# Altium schematic symbol library WCAP-ATG8.SchLib: 195 symbols (part 1 of 3)
Pins are listed as number, name and electrical type; pins without a type are passive.

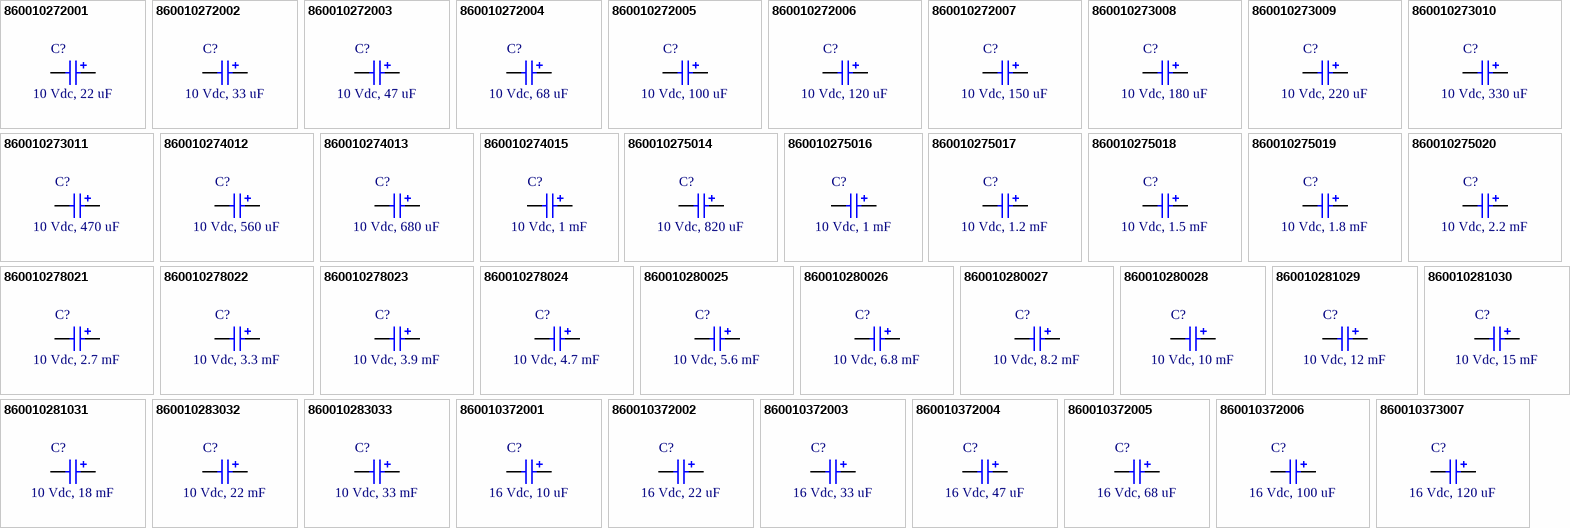
[diagram p0: symbols 860010272001 to 860010373007]

## 860010272001
designator C?, comment 10 Vdc, 22 uF
WCAP-ATG8 Aluminum Electrolytic Capacitors, 5x11mm, 10 Vdc, 22 uF; Part Number: 860010272001; Rated Voltage: 10 Vdc; Value: 22 uF; ComponentLink1Description: Manufacturer; ComponentLink1URL: http://www.we-online.de; ComponentLink2Description: Datasheet; ComponentLink2URL: http://katalog.we-online.de/pbs/datasheet/860010272001.pdf; Published Date: Sep. 2017; Publisher: Wurth Elektronik; Size: 5x11mm; Life Cycle: 2000h; Operating Temperature: -40 °C up to +85 °C
footprint WCAP-ATG8_5x11x2
pins: 1 P, 2 N

## 860010272002
designator C?, comment 10 Vdc, 33 uF
WCAP-ATG8 Aluminum Electrolytic Capacitors, 5x11mm, 10 Vdc, 33 uF; Part Number: 860010272002; Rated Voltage: 10 Vdc; Value: 33 uF; ComponentLink1Description: Manufacturer; ComponentLink1URL: http://www.we-online.de; ComponentLink2Description: Datasheet; ComponentLink2URL: http://katalog.we-online.de/pbs/datasheet/860010272002.pdf; Published Date: Sep. 2017; Publisher: Wurth Elektronik; Size: 5x11mm; Life Cycle: 2000h; Operating Temperature: -40 °C up to +85 °C
footprint WCAP-ATG8_5x11x2
pins: 1 P, 2 N

## 860010272003
designator C?, comment 10 Vdc, 47 uF
WCAP-ATG8 Aluminum Electrolytic Capacitors, 5x11mm, 10 Vdc, 47 uF; Part Number: 860010272003; Rated Voltage: 10 Vdc; Value: 47 uF; ComponentLink1Description: Manufacturer; ComponentLink1URL: http://www.we-online.de; ComponentLink2Description: Datasheet; ComponentLink2URL: http://katalog.we-online.de/pbs/datasheet/860010272003.pdf; Published Date: Sep. 2017; Publisher: Wurth Elektronik; Size: 5x11mm; Life Cycle: 2000h; Operating Temperature: -40 °C up to +85 °C
footprint WCAP-ATG8_5x11x2
pins: 1 P, 2 N

## 860010272004
designator C?, comment 10 Vdc, 68 uF
WCAP-ATG8 Aluminum Electrolytic Capacitors, 5x11mm, 10 Vdc, 68 uF; Part Number: 860010272004; Rated Voltage: 10 Vdc; Value: 68 uF; ComponentLink1Description: Manufacturer; ComponentLink1URL: http://www.we-online.de; ComponentLink2Description: Datasheet; ComponentLink2URL: http://katalog.we-online.de/pbs/datasheet/860010272004.pdf; Published Date: Sep. 2017; Publisher: Wurth Elektronik; Size: 5x11mm; Life Cycle: 2000h; Operating Temperature: -40 °C up to +85 °C
footprint WCAP-ATG8_5x11x2
pins: 1 P, 2 N

## 860010272005
designator C?, comment 10 Vdc, 100 uF
WCAP-ATG8 Aluminum Electrolytic Capacitors, 5x11mm, 10 Vdc, 100 uF; Part Number: 860010272005; Rated Voltage: 10 Vdc; Value: 100 uF; ComponentLink1Description: Manufacturer; ComponentLink1URL: http://www.we-online.de; ComponentLink2Description: Datasheet; ComponentLink2URL: http://katalog.we-online.de/pbs/datasheet/860010272005.pdf; Published Date: Sep. 2017; Publisher: Wurth Elektronik; Size: 5x11mm; Life Cycle: 2000h; Operating Temperature: -40 °C up to +85 °C
footprint WCAP-ATG8_5x11x2
pins: 1 P, 2 N

## 860010272006
designator C?, comment 10 Vdc, 120 uF
WCAP-ATG8 Aluminum Electrolytic Capacitors, 5x11mm, 10 Vdc, 120 uF; Part Number: 860010272006; Rated Voltage: 10 Vdc; Value: 120 uF; ComponentLink1Description: Manufacturer; ComponentLink1URL: http://www.we-online.de; ComponentLink2Description: Datasheet; ComponentLink2URL: http://katalog.we-online.de/pbs/datasheet/860010272006.pdf; Published Date: Sep. 2017; Publisher: Wurth Elektronik; Size: 5x11mm; Life Cycle: 2000h; Operating Temperature: -40 °C up to +85 °C
footprint WCAP-ATG8_5x11x2
pins: 1 P, 2 N

## 860010272007
designator C?, comment 10 Vdc, 150 uF
WCAP-ATG8 Aluminum Electrolytic Capacitors, 5x11mm, 10 Vdc, 150 uF; Part Number: 860010272007; Rated Voltage: 10 Vdc; Value: 150 uF; ComponentLink1Description: Manufacturer; ComponentLink1URL: http://www.we-online.de; ComponentLink2Description: Datasheet; ComponentLink2URL: http://katalog.we-online.de/pbs/datasheet/860010272007.pdf; Published Date: Sep. 2017; Publisher: Wurth Elektronik; Size: 5x11mm; Life Cycle: 2000h; Operating Temperature: -40 °C up to +85 °C
footprint WCAP-ATG8_5x11x2
pins: 1 P, 2 N

## 860010273008
designator C?, comment 10 Vdc, 180 uF
WCAP-ATG8 Aluminum Electrolytic Capacitors, 6.3x11mm, 10 Vdc, 180 uF; Part Number: 860010273008; Rated Voltage: 10 Vdc; Value: 180 uF; ComponentLink1Description: Manufacturer; ComponentLink1URL: http://www.we-online.de; ComponentLink2Description: Datasheet; ComponentLink2URL: http://katalog.we-online.de/pbs/datasheet/860010273008.pdf; Published Date: Sep. 2017; Publisher: Wurth Elektronik; Size: 6.3x11mm; Life Cycle: 2000h; Operating Temperature: -40 °C up to +85 °C
footprint WCAP-ATG8_6.3x11x2.5
pins: 1 P, 2 N

## 860010273009
designator C?, comment 10 Vdc, 220 uF
WCAP-ATG8 Aluminum Electrolytic Capacitors, 6.3x11mm, 10 Vdc, 220 uF; Part Number: 860010273009; Rated Voltage: 10 Vdc; Value: 220 uF; ComponentLink1Description: Manufacturer; ComponentLink1URL: http://www.we-online.de; ComponentLink2Description: Datasheet; ComponentLink2URL: http://katalog.we-online.de/pbs/datasheet/860010273009.pdf; Published Date: Sep. 2017; Publisher: Wurth Elektronik; Size: 6.3x11mm; Life Cycle: 2000h; Operating Temperature: -40 °C up to +85 °C
footprint WCAP-ATG8_6.3x11x2.5
pins: 1 P, 2 N

## 860010273010
designator C?, comment 10 Vdc, 330 uF
WCAP-ATG8 Aluminum Electrolytic Capacitors, 6.3x11mm, 10 Vdc, 330 uF; Part Number: 860010273010; Rated Voltage: 10 Vdc; Value: 330 uF; ComponentLink1Description: Manufacturer; ComponentLink1URL: http://www.we-online.de; ComponentLink2Description: Datasheet; ComponentLink2URL: http://katalog.we-online.de/pbs/datasheet/860010273010.pdf; Published Date: Sep. 2017; Publisher: Wurth Elektronik; Size: 6.3x11mm; Life Cycle: 2000h; Operating Temperature: -40 °C up to +85 °C
footprint WCAP-ATG8_6.3x11x2.5
pins: 1 P, 2 N

## 860010273011
designator C?, comment 10 Vdc, 470 uF
WCAP-ATG8 Aluminum Electrolytic Capacitors, 6.3x11mm, 10 Vdc, 470 uF; Part Number: 860010273011; Rated Voltage: 10 Vdc; Value: 470 uF; ComponentLink1Description: Manufacturer; ComponentLink1URL: http://www.we-online.de; ComponentLink2Description: Datasheet; ComponentLink2URL: http://katalog.we-online.de/pbs/datasheet/860010273011.pdf; Published Date: Sep. 2017; Publisher: Wurth Elektronik; Size: 6.3x11mm; Life Cycle: 2000h; Operating Temperature: -40 °C up to +85 °C
footprint WCAP-ATG8_6.3x11x2.5
pins: 1 P, 2 N

## 860010274012
designator C?, comment 10 Vdc, 560 uF
WCAP-ATG8 Aluminum Electrolytic Capacitors, 8x11.5mm, 10 Vdc, 560 uF; Part Number: 860010274012; Rated Voltage: 10 Vdc; Value: 560 uF; ComponentLink1Description: Manufacturer; ComponentLink1URL: http://www.we-online.de; ComponentLink2Description: Datasheet; ComponentLink2URL: http://katalog.we-online.de/pbs/datasheet/860010274012.pdf; Published Date: Sep. 2017; Publisher: Wurth Elektronik; Size: 8x11.5mm; Life Cycle: 2000h; Operating Temperature: -40 °C up to +85 °C
footprint WCAP-ATG8_8x11.5x3.5
pins: 1 P, 2 N

## 860010274013
designator C?, comment 10 Vdc, 680 uF
WCAP-ATG8 Aluminum Electrolytic Capacitors, 8x11.5mm, 10 Vdc, 680 uF; Part Number: 860010274013; Rated Voltage: 10 Vdc; Value: 680 uF; ComponentLink1Description: Manufacturer; ComponentLink1URL: http://www.we-online.de; ComponentLink2Description: Datasheet; ComponentLink2URL: http://katalog.we-online.de/pbs/datasheet/860010274013.pdf; Published Date: Sep. 2017; Publisher: Wurth Elektronik; Size: 8x11.5mm; Life Cycle: 2000h; Operating Temperature: -40 °C up to +85 °C
footprint WCAP-ATG8_8x11.5x3.5
pins: 1 P, 2 N

## 860010274015
designator C?, comment 10 Vdc, 1 mF
WCAP-ATG8 Aluminum Electrolytic Capacitors, 8x16mm, 10 Vdc, 1 mF; Part Number: 860010274015; Rated Voltage: 10 Vdc; Value: 1 mF; ComponentLink1Description: Manufacturer; ComponentLink1URL: http://www.we-online.de; ComponentLink2Description: Datasheet; ComponentLink2URL: http://katalog.we-online.de/pbs/datasheet/860010274015.pdf; Published Date: Sep. 2017; Publisher: Wurth Elektronik; Size: 8x16mm; Life Cycle: 2000h; Operating Temperature: -40 °C up to +85 °C
footprint WCAP-ATG8_8x16x3.5
pins: 1 P, 2 N

## 860010275014
designator C?, comment 10 Vdc, 820 uF
WCAP-ATG8 Aluminum Electrolytic Capacitors, 10x12.5mm, 10 Vdc, 820 uF; Part Number: 860010275014; Rated Voltage: 10 Vdc; Value: 820 uF; ComponentLink1Description: Manufacturer; ComponentLink1URL: http://www.we-online.de; ComponentLink2Description: Datasheet; ComponentLink2URL: http://katalog.we-online.de/pbs/datasheet/860010275014.pdf; Published Date: Sep. 2017; Publisher: Wurth Elektronik; Size: 10x12.5mm; Life Cycle: 2000h; Operating Temperature: -40 °C up to +85 °C
footprint WCAP-ATG8_10x12.5x5
pins: 1 P, 2 N

## 860010275016
designator C?, comment 10 Vdc, 1 mF
WCAP-ATG8 Aluminum Electrolytic Capacitors, 10x12.5mm, 10 Vdc, 1 mF; Part Number: 860010275016; Rated Voltage: 10 Vdc; Value: 1 mF; ComponentLink1Description: Manufacturer; ComponentLink1URL: http://www.we-online.de; ComponentLink2Description: Datasheet; ComponentLink2URL: http://katalog.we-online.de/pbs/datasheet/860010275016.pdf; Published Date: Sep. 2017; Publisher: Wurth Elektronik; Size: 10x12.5mm; Life Cycle: 2000h; Operating Temperature: -40 °C up to +85 °C
footprint WCAP-ATG8_10x12.5x5
pins: 1 P, 2 N

## 860010275017
designator C?, comment 10 Vdc, 1.2 mF
WCAP-ATG8 Aluminum Electrolytic Capacitors, 10x16mm, 10 Vdc, 1.2 mF; Part Number: 860010275017; Rated Voltage: 10 Vdc; Value: 1.2 mF; ComponentLink1Description: Manufacturer; ComponentLink1URL: http://www.we-online.de; ComponentLink2Description: Datasheet; ComponentLink2URL: http://katalog.we-online.de/pbs/datasheet/860010275017.pdf; Published Date: Sep. 2017; Publisher: Wurth Elektronik; Size: 10x16mm; Life Cycle: 2000h; Operating Temperature: -40 °C up to +85 °C
footprint WCAP-ATG8_10x16x5
pins: 1 P, 2 N

## 860010275018
designator C?, comment 10 Vdc, 1.5 mF
WCAP-ATG8 Aluminum Electrolytic Capacitors, 10x16mm, 10 Vdc, 1.5 mF; Part Number: 860010275018; Rated Voltage: 10 Vdc; Value: 1.5 mF; ComponentLink1Description: Manufacturer; ComponentLink1URL: http://www.we-online.de; ComponentLink2Description: Datasheet; ComponentLink2URL: http://katalog.we-online.de/pbs/datasheet/860010275018.pdf; Published Date: Sep. 2017; Publisher: Wurth Elektronik; Size: 10x16mm; Life Cycle: 2000h; Operating Temperature: -40 °C up to +85 °C
footprint WCAP-ATG8_10x16x5
pins: 1 P, 2 N

## 860010275019
designator C?, comment 10 Vdc, 1.8 mF
WCAP-ATG8 Aluminum Electrolytic Capacitors, 10x20mm, 10 Vdc, 1.8 mF; Part Number: 860010275019; Rated Voltage: 10 Vdc; Value: 1.8 mF; ComponentLink1Description: Manufacturer; ComponentLink1URL: http://www.we-online.de; ComponentLink2Description: Datasheet; ComponentLink2URL: http://katalog.we-online.de/pbs/datasheet/860010275019.pdf; Published Date: Sep. 2017; Publisher: Wurth Elektronik; Size: 10x20mm; Life Cycle: 2000h; Operating Temperature: -40 °C up to +85 °C
footprint WCAP-ATG8_10x20x5
pins: 1 P, 2 N

## 860010275020
designator C?, comment 10 Vdc, 2.2 mF
WCAP-ATG8 Aluminum Electrolytic Capacitors, 10x20mm, 10 Vdc, 2.2 mF; Part Number: 860010275020; Rated Voltage: 10 Vdc; Value: 2.2 mF; ComponentLink1Description: Manufacturer; ComponentLink1URL: http://www.we-online.de; ComponentLink2Description: Datasheet; ComponentLink2URL: http://katalog.we-online.de/pbs/datasheet/860010275020.pdf; Published Date: Sep. 2017; Publisher: Wurth Elektronik; Size: 10x20mm; Life Cycle: 2000h; Operating Temperature: -40 °C up to +85 °C
footprint WCAP-ATG8_10x20x5
pins: 1 P, 2 N

## 860010278021
designator C?, comment 10 Vdc, 2.7 mF
WCAP-ATG8 Aluminum Electrolytic Capacitors, 13x20mm, 10 Vdc, 2.7 mF; Part Number: 860010278021; Rated Voltage: 10 Vdc; Value: 2.7 mF; ComponentLink1Description: Manufacturer; ComponentLink1URL: http://www.we-online.de; ComponentLink2Description: Datasheet; ComponentLink2URL: http://katalog.we-online.de/pbs/datasheet/860010278021.pdf; Published Date: Sep. 2017; Publisher: Wurth Elektronik; Size: 13x20mm; Life Cycle: 2000h; Operating Temperature: -40 °C up to +85 °C
footprint WCAP-ATG8_13x20x5
pins: 1 P, 2 N

## 860010278022
designator C?, comment 10 Vdc, 3.3 mF
WCAP-ATG8 Aluminum Electrolytic Capacitors, 13x20mm, 10 Vdc, 3.3 mF; Part Number: 860010278022; Rated Voltage: 10 Vdc; Value: 3.3 mF; ComponentLink1Description: Manufacturer; ComponentLink1URL: http://www.we-online.de; ComponentLink2Description: Datasheet; ComponentLink2URL: http://katalog.we-online.de/pbs/datasheet/860010278022.pdf; Published Date: Sep. 2017; Publisher: Wurth Elektronik; Size: 13x20mm; Life Cycle: 2000h; Operating Temperature: -40 °C up to +85 °C
footprint WCAP-ATG8_13x20x5
pins: 1 P, 2 N

## 860010278023
designator C?, comment 10 Vdc, 3.9 mF
WCAP-ATG8 Aluminum Electrolytic Capacitors, 13x20mm, 10 Vdc, 3.9 mF; Part Number: 860010278023; Rated Voltage: 10 Vdc; Value: 3.9 mF; ComponentLink1Description: Manufacturer; ComponentLink1URL: http://www.we-online.de; ComponentLink2Description: Datasheet; ComponentLink2URL: http://katalog.we-online.de/pbs/datasheet/860010278023.pdf; Published Date: Sep. 2017; Publisher: Wurth Elektronik; Size: 13x20mm; Life Cycle: 2000h; Operating Temperature: -40 °C up to +85 °C
footprint WCAP-ATG8_13x20x5
pins: 1 P, 2 N

## 860010278024
designator C?, comment 10 Vdc, 4.7 mF
WCAP-ATG8 Aluminum Electrolytic Capacitors, 13x25mm, 10 Vdc, 4.7 mF; Part Number: 860010278024; Rated Voltage: 10 Vdc; Value: 4.7 mF; ComponentLink1Description: Manufacturer; ComponentLink1URL: http://www.we-online.de; ComponentLink2Description: Datasheet; ComponentLink2URL: http://katalog.we-online.de/pbs/datasheet/860010278024.pdf; Published Date: Sep. 2017; Publisher: Wurth Elektronik; Size: 13x25mm; Life Cycle: 2000h; Operating Temperature: -40 °C up to +85 °C
footprint WCAP-ATG8_13x25x5
pins: 1 P, 2 N

## 860010280025
designator C?, comment 10 Vdc, 5.6 mF
WCAP-ATG8 Aluminum Electrolytic Capacitors, 16x25mm, 10 Vdc, 5.6 mF; Part Number: 860010280025; Rated Voltage: 10 Vdc; Value: 5.6 mF; ComponentLink1Description: Manufacturer; ComponentLink1URL: http://www.we-online.de; ComponentLink2Description: Datasheet; ComponentLink2URL: http://katalog.we-online.de/pbs/datasheet/860010280025.pdf; Published Date: Sep. 2017; Publisher: Wurth Elektronik; Size: 16x25mm; Life Cycle: 2000h; Operating Temperature: -40 °C up to +85 °C
footprint WCAP-ATG8_16x25x7.5
pins: 1 P, 2 N

## 860010280026
designator C?, comment 10 Vdc, 6.8 mF
WCAP-ATG8 Aluminum Electrolytic Capacitors, 16x25mm, 10 Vdc, 6.8 mF; Part Number: 860010280026; Rated Voltage: 10 Vdc; Value: 6.8 mF; ComponentLink1Description: Manufacturer; ComponentLink1URL: http://www.we-online.de; ComponentLink2Description: Datasheet; ComponentLink2URL: http://katalog.we-online.de/pbs/datasheet/860010280026.pdf; Published Date: Sep. 2017; Publisher: Wurth Elektronik; Size: 16x25mm; Life Cycle: 2000h; Operating Temperature: -40 °C up to +85 °C
footprint WCAP-ATG8_16x25x7.5
pins: 1 P, 2 N

## 860010280027
designator C?, comment 10 Vdc, 8.2 mF
WCAP-ATG8 Aluminum Electrolytic Capacitors, 16x31.5mm, 10 Vdc, 8.2 mF; Part Number: 860010280027; Rated Voltage: 10 Vdc; Value: 8.2 mF; ComponentLink1Description: Manufacturer; ComponentLink1URL: http://www.we-online.de; ComponentLink2Description: Datasheet; ComponentLink2URL: http://katalog.we-online.de/pbs/datasheet/860010280027.pdf; Published Date: Sep. 2017; Publisher: Wurth Elektronik; Size: 16x31.5mm; Life Cycle: 2000h; Operating Temperature: -40 °C up to +85 °C
footprint WCAP-ATG8_16x31.5x7.5
pins: 1 P, 2 N

## 860010280028
designator C?, comment 10 Vdc, 10 mF
WCAP-ATG8 Aluminum Electrolytic Capacitors, 16x35.5mm, 10 Vdc, 10 mF; Part Number: 860010280028; Rated Voltage: 10 Vdc; Value: 10 mF; ComponentLink1Description: Manufacturer; ComponentLink1URL: http://www.we-online.de; ComponentLink2Description: Datasheet; ComponentLink2URL: http://katalog.we-online.de/pbs/datasheet/860010280028.pdf; Published Date: Sep. 2017; Publisher: Wurth Elektronik; Size: 16x35.5mm; Life Cycle: 2000h; Operating Temperature: -40 °C up to +85 °C
footprint WCAP-ATG8_16x35.5x7.5
pins: 1 P, 2 N

## 860010281029
designator C?, comment 10 Vdc, 12 mF
WCAP-ATG8 Aluminum Electrolytic Capacitors, 18x35.5mm, 10 Vdc, 12 mF; Part Number: 860010281029; Rated Voltage: 10 Vdc; Value: 12 mF; ComponentLink1Description: Manufacturer; ComponentLink1URL: http://www.we-online.de; ComponentLink2Description: Datasheet; ComponentLink2URL: http://katalog.we-online.de/pbs/datasheet/860010281029.pdf; Published Date: Sep. 2017; Publisher: Wurth Elektronik; Size: 18x35.5mm; Life Cycle: 2000h; Operating Temperature: -40 °C up to +85 °C
footprint WCAP-ATG8_18x35.5x7.5
pins: 1 P, 2 N

## 860010281030
designator C?, comment 10 Vdc, 15 mF
WCAP-ATG8 Aluminum Electrolytic Capacitors, 18x35.5mm, 10 Vdc, 15 mF; Part Number: 860010281030; Rated Voltage: 10 Vdc; Value: 15 mF; ComponentLink1Description: Manufacturer; ComponentLink1URL: http://www.we-online.de; ComponentLink2Description: Datasheet; ComponentLink2URL: http://katalog.we-online.de/pbs/datasheet/860010281030.pdf; Published Date: Sep. 2017; Publisher: Wurth Elektronik; Size: 18x35.5mm; Life Cycle: 2000h; Operating Temperature: -40 °C up to +85 °C
footprint WCAP-ATG8_18x35.5x7.5
pins: 1 P, 2 N

## 860010281031
designator C?, comment 10 Vdc, 18 mF
WCAP-ATG8 Aluminum Electrolytic Capacitors, 18x41mm, 10 Vdc, 18 mF; Part Number: 860010281031; Rated Voltage: 10 Vdc; Value: 18 mF; ComponentLink1Description: Manufacturer; ComponentLink1URL: http://www.we-online.de; ComponentLink2Description: Datasheet; ComponentLink2URL: http://katalog.we-online.de/pbs/datasheet/860010281031.pdf; Published Date: Sep. 2017; Publisher: Wurth Elektronik; Size: 18x41mm; Life Cycle: 2000h; Operating Temperature: -40 °C up to +85 °C
footprint WCAP-ATG8_18x41x7.5
pins: 1 P, 2 N

## 860010283032
designator C?, comment 10 Vdc, 22 mF
WCAP-ATG8 Aluminum Electrolytic Capacitors, 22x41mm, 10 Vdc, 22 mF; Part Number: 860010283032; Rated Voltage: 10 Vdc; Value: 22 mF; ComponentLink1Description: Manufacturer; ComponentLink1URL: http://www.we-online.de; ComponentLink2Description: Datasheet; ComponentLink2URL: http://katalog.we-online.de/pbs/datasheet/860010283032.pdf; Published Date: Sep. 2017; Publisher: Wurth Elektronik; Size: 22x41mm; Life Cycle: 2000h; Operating Temperature: -40 °C up to +85 °C
footprint WCAP-ATG8_22x41x10
pins: 1 P, 2 N

## 860010283033
designator C?, comment 10 Vdc, 33 mF
WCAP-ATG8 Aluminum Electrolytic Capacitors, 22x51mm, 10 Vdc, 33 mF; Part Number: 860010283033; Rated Voltage: 10 Vdc; Value: 33 mF; ComponentLink1Description: Manufacturer; ComponentLink1URL: http://www.we-online.de; ComponentLink2Description: Datasheet; ComponentLink2URL: http://katalog.we-online.de/pbs/datasheet/860010283033.pdf; Published Date: Sep. 2017; Publisher: Wurth Elektronik; Size: 22x51mm; Life Cycle: 2000h; Operating Temperature: -40 °C up to +85 °C
footprint WCAP-ATG8_22x51x10
pins: 1 P, 2 N

## 860010372001
designator C?, comment 16 Vdc, 10 uF
WCAP-ATG8 Aluminum Electrolytic Capacitors, 5x11mm, 16 Vdc, 10 uF; Part Number: 860010372001; Rated Voltage: 16 Vdc; Value: 10 uF; ComponentLink1Description: Manufacturer; ComponentLink1URL: http://www.we-online.de; ComponentLink2Description: Datasheet; ComponentLink2URL: http://katalog.we-online.de/pbs/datasheet/860010372001.pdf; Published Date: Sep. 2017; Publisher: Wurth Elektronik; Size: 5x11mm; Life Cycle: 2000h; Operating Temperature: -40 °C up to +85 °C
footprint WCAP-ATG8_5x11x2
pins: 1 P, 2 N

## 860010372002
designator C?, comment 16 Vdc, 22 uF
WCAP-ATG8 Aluminum Electrolytic Capacitors, 5x11mm, 16 Vdc, 22 uF; Part Number: 860010372002; Rated Voltage: 16 Vdc; Value: 22 uF; ComponentLink1Description: Manufacturer; ComponentLink1URL: http://www.we-online.de; ComponentLink2Description: Datasheet; ComponentLink2URL: http://katalog.we-online.de/pbs/datasheet/860010372002.pdf; Published Date: Sep. 2017; Publisher: Wurth Elektronik; Size: 5x11mm; Life Cycle: 2000h; Operating Temperature: -40 °C up to +85 °C
footprint WCAP-ATG8_5x11x2
pins: 1 P, 2 N

## 860010372003
designator C?, comment 16 Vdc, 33 uF
WCAP-ATG8 Aluminum Electrolytic Capacitors, 5x11mm, 16 Vdc, 33 uF; Part Number: 860010372003; Rated Voltage: 16 Vdc; Value: 33 uF; ComponentLink1Description: Manufacturer; ComponentLink1URL: http://www.we-online.de; ComponentLink2Description: Datasheet; ComponentLink2URL: http://katalog.we-online.de/pbs/datasheet/860010372003.pdf; Published Date: Sep. 2017; Publisher: Wurth Elektronik; Size: 5x11mm; Life Cycle: 2000h; Operating Temperature: -40 °C up to +85 °C
footprint WCAP-ATG8_5x11x2
pins: 1 P, 2 N

## 860010372004
designator C?, comment 16 Vdc, 47 uF
WCAP-ATG8 Aluminum Electrolytic Capacitors, 5x11mm, 16 Vdc, 47 uF; Part Number: 860010372004; Rated Voltage: 16 Vdc; Value: 47 uF; ComponentLink1Description: Manufacturer; ComponentLink1URL: http://www.we-online.de; ComponentLink2Description: Datasheet; ComponentLink2URL: http://katalog.we-online.de/pbs/datasheet/860010372004.pdf; Published Date: Sep. 2017; Publisher: Wurth Elektronik; Size: 5x11mm; Life Cycle: 2000h; Operating Temperature: -40 °C up to +85 °C
footprint WCAP-ATG8_5x11x2
pins: 1 P, 2 N

## 860010372005
designator C?, comment 16 Vdc, 68 uF
WCAP-ATG8 Aluminum Electrolytic Capacitors, 5x11mm, 16 Vdc, 68 uF; Part Number: 860010372005; Rated Voltage: 16 Vdc; Value: 68 uF; ComponentLink1Description: Manufacturer; ComponentLink1URL: http://www.we-online.de; ComponentLink2Description: Datasheet; ComponentLink2URL: http://katalog.we-online.de/pbs/datasheet/860010372005.pdf; Published Date: Sep. 2017; Publisher: Wurth Elektronik; Size: 5x11mm; Life Cycle: 2000h; Operating Temperature: -40 °C up to +85 °C
footprint WCAP-ATG8_5x11x2
pins: 1 P, 2 N

## 860010372006
designator C?, comment 16 Vdc, 100 uF
WCAP-ATG8 Aluminum Electrolytic Capacitors, 5x11mm, 16 Vdc, 100 uF; Part Number: 860010372006; Rated Voltage: 16 Vdc; Value: 100 uF; ComponentLink1Description: Manufacturer; ComponentLink1URL: http://www.we-online.de; ComponentLink2Description: Datasheet; ComponentLink2URL: http://katalog.we-online.de/pbs/datasheet/860010372006.pdf; Published Date: Sep. 2017; Publisher: Wurth Elektronik; Size: 5x11mm; Life Cycle: 2000h; Operating Temperature: -40 °C up to +85 °C
footprint WCAP-ATG8_5x11x2
pins: 1 P, 2 N

## 860010373007
designator C?, comment 16 Vdc, 120 uF
WCAP-ATG8 Aluminum Electrolytic Capacitors, 6.3x11mm, 16 Vdc, 120 uF; Part Number: 860010373007; Rated Voltage: 16 Vdc; Value: 120 uF; ComponentLink1Description: Manufacturer; ComponentLink1URL: http://www.we-online.de; ComponentLink2Description: Datasheet; ComponentLink2URL: http://katalog.we-online.de/pbs/datasheet/860010373007.pdf; Published Date: Sep. 2017; Publisher: Wurth Elektronik; Size: 6.3x11mm; Life Cycle: 2000h; Operating Temperature: -40 °C up to +85 °C
footprint WCAP-ATG8_6.3x11x2.5
pins: 1 P, 2 N

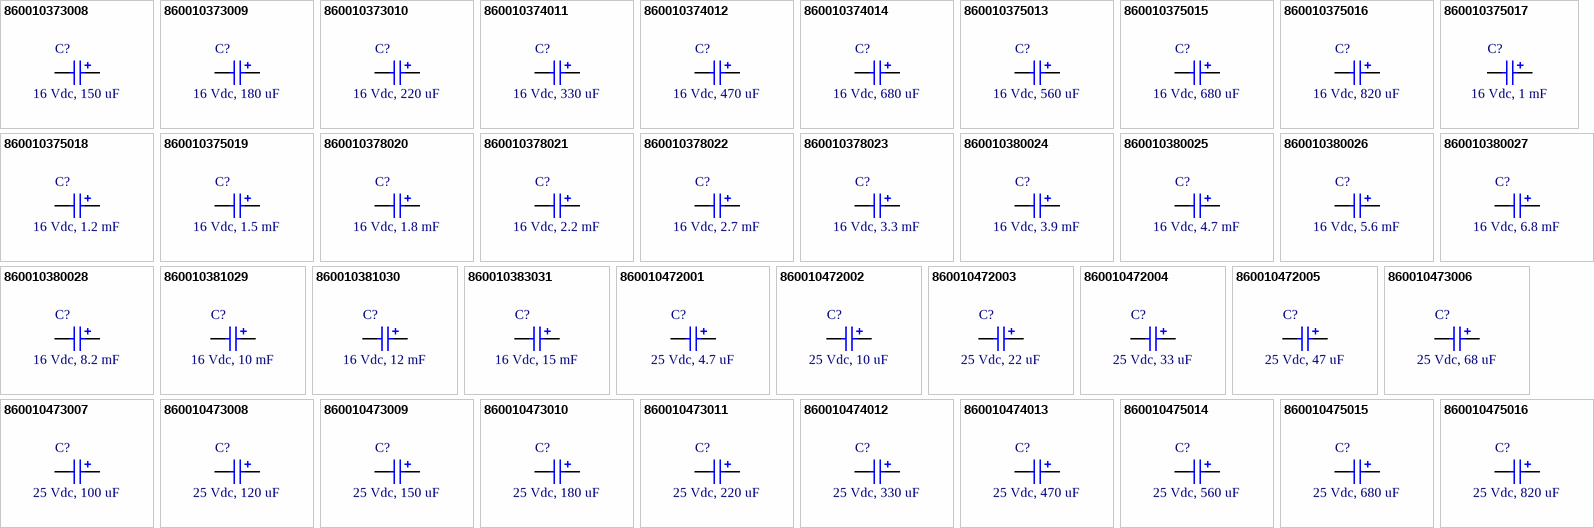
[diagram p1: symbols 860010373008 to 860010475016]

## 860010373008
designator C?, comment 16 Vdc, 150 uF
WCAP-ATG8 Aluminum Electrolytic Capacitors, 6.3x11mm, 16 Vdc, 150 uF; Part Number: 860010373008; Rated Voltage: 16 Vdc; Value: 150 uF; ComponentLink1Description: Manufacturer; ComponentLink1URL: http://www.we-online.de; ComponentLink2Description: Datasheet; ComponentLink2URL: http://katalog.we-online.de/pbs/datasheet/860010373008.pdf; Published Date: Sep. 2017; Publisher: Wurth Elektronik; Size: 6.3x11mm; Life Cycle: 2000h; Operating Temperature: -40 °C up to +85 °C
footprint WCAP-ATG8_6.3x11x2.5
pins: 1 P, 2 N

## 860010373009
designator C?, comment 16 Vdc, 180 uF
WCAP-ATG8 Aluminum Electrolytic Capacitors, 6.3x11mm, 16 Vdc, 180 uF; Part Number: 860010373009; Rated Voltage: 16 Vdc; Value: 180 uF; ComponentLink1Description: Manufacturer; ComponentLink1URL: http://www.we-online.de; ComponentLink2Description: Datasheet; ComponentLink2URL: http://katalog.we-online.de/pbs/datasheet/860010373009.pdf; Published Date: Sep. 2017; Publisher: Wurth Elektronik; Size: 6.3x11mm; Life Cycle: 2000h; Operating Temperature: -40 °C up to +85 °C
footprint WCAP-ATG8_6.3x11x2.5
pins: 1 P, 2 N

## 860010373010
designator C?, comment 16 Vdc, 220 uF
WCAP-ATG8 Aluminum Electrolytic Capacitors, 6.3x11mm, 16 Vdc, 220 uF; Part Number: 860010373010; Rated Voltage: 16 Vdc; Value: 220 uF; ComponentLink1Description: Manufacturer; ComponentLink1URL: http://www.we-online.de; ComponentLink2Description: Datasheet; ComponentLink2URL: http://katalog.we-online.de/pbs/datasheet/860010373010.pdf; Published Date: Sep. 2017; Publisher: Wurth Elektronik; Size: 6.3x11mm; Life Cycle: 2000h; Operating Temperature: -40 °C up to +85 °C
footprint WCAP-ATG8_6.3x11x2.5
pins: 1 P, 2 N

## 860010374011
designator C?, comment 16 Vdc, 330 uF
WCAP-ATG8 Aluminum Electrolytic Capacitors, 8x11.5mm, 16 Vdc, 330 uF; Part Number: 860010374011; Rated Voltage: 16 Vdc; Value: 330 uF; ComponentLink1Description: Manufacturer; ComponentLink1URL: http://www.we-online.de; ComponentLink2Description: Datasheet; ComponentLink2URL: http://katalog.we-online.de/pbs/datasheet/860010374011.pdf; Published Date: Sep. 2017; Publisher: Wurth Elektronik; Size: 8x11.5mm; Life Cycle: 2000h; Operating Temperature: -40 °C up to +85 °C
footprint WCAP-ATG8_8x11.5x3.5
pins: 1 P, 2 N

## 860010374012
designator C?, comment 16 Vdc, 470 uF
WCAP-ATG8 Aluminum Electrolytic Capacitors, 8x11.5mm, 16 Vdc, 470 uF; Part Number: 860010374012; Rated Voltage: 16 Vdc; Value: 470 uF; ComponentLink1Description: Manufacturer; ComponentLink1URL: http://www.we-online.de; ComponentLink2Description: Datasheet; ComponentLink2URL: http://katalog.we-online.de/pbs/datasheet/860010374012.pdf; Published Date: Sep. 2017; Publisher: Wurth Elektronik; Size: 8x11.5mm; Life Cycle: 2000h; Operating Temperature: -40 °C up to +85 °C
footprint WCAP-ATG8_8x11.5x3.5
pins: 1 P, 2 N

## 860010374014
designator C?, comment 16 Vdc, 680 uF
WCAP-ATG8 Aluminum Electrolytic Capacitors, 8x16mm, 16 Vdc, 680 uF; Part Number: 860010374014; Rated Voltage: 16 Vdc; Value: 680 uF; ComponentLink1Description: Manufacturer; ComponentLink1URL: http://www.we-online.de; ComponentLink2Description: Datasheet; ComponentLink2URL: http://katalog.we-online.de/pbs/datasheet/860010374014.pdf; Published Date: Sep. 2017; Publisher: Wurth Elektronik; Size: 8x16mm; Life Cycle: 2000h; Operating Temperature: -40 °C up to +85 °C
footprint WCAP-ATG8_8x16x3.5
pins: 1 P, 2 N

## 860010375013
designator C?, comment 16 Vdc, 560 uF
WCAP-ATG8 Aluminum Electrolytic Capacitors, 10x12.5mm, 16 Vdc, 560 uF; Part Number: 860010375013; Rated Voltage: 16 Vdc; Value: 560 uF; ComponentLink1Description: Manufacturer; ComponentLink1URL: http://www.we-online.de; ComponentLink2Description: Datasheet; ComponentLink2URL: http://katalog.we-online.de/pbs/datasheet/860010375013.pdf; Published Date: Sep. 2017; Publisher: Wurth Elektronik; Size: 10x12.5mm; Life Cycle: 2000h; Operating Temperature: -40 °C up to +85 °C
footprint WCAP-ATG8_10x12.5x5
pins: 1 P, 2 N

## 860010375015
designator C?, comment 16 Vdc, 680 uF
WCAP-ATG8 Aluminum Electrolytic Capacitors, 10x12.5mm, 16 Vdc, 680 uF; Part Number: 860010375015; Rated Voltage: 16 Vdc; Value: 680 uF; ComponentLink1Description: Manufacturer; ComponentLink1URL: http://www.we-online.de; ComponentLink2Description: Datasheet; ComponentLink2URL: http://katalog.we-online.de/pbs/datasheet/860010375015.pdf; Published Date: Sep. 2017; Publisher: Wurth Elektronik; Size: 10x12.5mm; Life Cycle: 2000h; Operating Temperature: -40 °C up to +85 °C
footprint WCAP-ATG8_10x12.5x5
pins: 1 P, 2 N

## 860010375016
designator C?, comment 16 Vdc, 820 uF
WCAP-ATG8 Aluminum Electrolytic Capacitors, 10x16mm, 16 Vdc, 820 uF; Part Number: 860010375016; Rated Voltage: 16 Vdc; Value: 820 uF; ComponentLink1Description: Manufacturer; ComponentLink1URL: http://www.we-online.de; ComponentLink2Description: Datasheet; ComponentLink2URL: http://katalog.we-online.de/pbs/datasheet/860010375016.pdf; Published Date: Sep. 2017; Publisher: Wurth Elektronik; Size: 10x16mm; Life Cycle: 2000h; Operating Temperature: -40 °C up to +85 °C
footprint WCAP-ATG8_10x16x5
pins: 1 P, 2 N

## 860010375017
designator C?, comment 16 Vdc, 1 mF
WCAP-ATG8 Aluminum Electrolytic Capacitors, 10x16mm, 16 Vdc, 1 mF; Part Number: 860010375017; Rated Voltage: 16 Vdc; Value: 1 mF; ComponentLink1Description: Manufacturer; ComponentLink1URL: http://www.we-online.de; ComponentLink2Description: Datasheet; ComponentLink2URL: http://katalog.we-online.de/pbs/datasheet/860010375017.pdf; Published Date: Sep. 2017; Publisher: Wurth Elektronik; Size: 10x16mm; Life Cycle: 2000h; Operating Temperature: -40 °C up to +85 °C
footprint WCAP-ATG8_10x16x5
pins: 1 P, 2 N

## 860010375018
designator C?, comment 16 Vdc, 1.2 mF
WCAP-ATG8 Aluminum Electrolytic Capacitors, 10x16mm, 16 Vdc, 1.2 mF; Part Number: 860010375018; Rated Voltage: 16 Vdc; Value: 1.2 mF; ComponentLink1Description: Manufacturer; ComponentLink1URL: http://www.we-online.de; ComponentLink2Description: Datasheet; ComponentLink2URL: http://katalog.we-online.de/pbs/datasheet/860010375018.pdf; Published Date: Sep. 2017; Publisher: Wurth Elektronik; Size: 10x16mm; Life Cycle: 2000h; Operating Temperature: -40 °C up to +85 °C
footprint WCAP-ATG8_10x16x5
pins: 1 P, 2 N

## 860010375019
designator C?, comment 16 Vdc, 1.5 mF
WCAP-ATG8 Aluminum Electrolytic Capacitors, 10x20mm, 16 Vdc, 1.5 mF; Part Number: 860010375019; Rated Voltage: 16 Vdc; Value: 1.5 mF; ComponentLink1Description: Manufacturer; ComponentLink1URL: http://www.we-online.de; ComponentLink2Description: Datasheet; ComponentLink2URL: http://katalog.we-online.de/pbs/datasheet/860010375019.pdf; Published Date: Sep. 2017; Publisher: Wurth Elektronik; Size: 10x20mm; Life Cycle: 2000h; Operating Temperature: -40 °C up to +85 °C
footprint WCAP-ATG8_10x20x5
pins: 1 P, 2 N

## 860010378020
designator C?, comment 16 Vdc, 1.8 mF
WCAP-ATG8 Aluminum Electrolytic Capacitors, 13x20mm, 16 Vdc, 1.8 mF; Part Number: 860010378020; Rated Voltage: 16 Vdc; Value: 1.8 mF; ComponentLink1Description: Manufacturer; ComponentLink1URL: http://www.we-online.de; ComponentLink2Description: Datasheet; ComponentLink2URL: http://katalog.we-online.de/pbs/datasheet/860010378020.pdf; Published Date: Sep. 2017; Publisher: Wurth Elektronik; Size: 13x20mm; Life Cycle: 2000h; Operating Temperature: -40 °C up to +85 °C
footprint WCAP-ATG8_13x20x5
pins: 1 P, 2 N

## 860010378021
designator C?, comment 16 Vdc, 2.2 mF
WCAP-ATG8 Aluminum Electrolytic Capacitors, 13x20mm, 16 Vdc, 2.2 mF; Part Number: 860010378021; Rated Voltage: 16 Vdc; Value: 2.2 mF; ComponentLink1Description: Manufacturer; ComponentLink1URL: http://www.we-online.de; ComponentLink2Description: Datasheet; ComponentLink2URL: http://katalog.we-online.de/pbs/datasheet/860010378021.pdf; Published Date: Sep. 2017; Publisher: Wurth Elektronik; Size: 13x20mm; Life Cycle: 2000h; Operating Temperature: -40 °C up to +85 °C
footprint WCAP-ATG8_13x20x5
pins: 1 P, 2 N

## 860010378022
designator C?, comment 16 Vdc, 2.7 mF
WCAP-ATG8 Aluminum Electrolytic Capacitors, 13x20mm, 16 Vdc, 2.7 mF; Part Number: 860010378022; Rated Voltage: 16 Vdc; Value: 2.7 mF; ComponentLink1Description: Manufacturer; ComponentLink1URL: http://www.we-online.de; ComponentLink2Description: Datasheet; ComponentLink2URL: http://katalog.we-online.de/pbs/datasheet/860010378022.pdf; Published Date: Sep. 2017; Publisher: Wurth Elektronik; Size: 13x20mm; Life Cycle: 2000h; Operating Temperature: -40 °C up to +85 °C
footprint WCAP-ATG8_13x20x5
pins: 1 P, 2 N

## 860010378023
designator C?, comment 16 Vdc, 3.3 mF
WCAP-ATG8 Aluminum Electrolytic Capacitors, 13x20mm, 16 Vdc, 3.3 mF; Part Number: 860010378023; Rated Voltage: 16 Vdc; Value: 3.3 mF; ComponentLink1Description: Manufacturer; ComponentLink1URL: http://www.we-online.de; ComponentLink2Description: Datasheet; ComponentLink2URL: http://katalog.we-online.de/pbs/datasheet/860010378023.pdf; Published Date: Sep. 2017; Publisher: Wurth Elektronik; Size: 13x20mm; Life Cycle: 2000h; Operating Temperature: -40 °C up to +85 °C
footprint WCAP-ATG8_13x20x5
pins: 1 P, 2 N

## 860010380024
designator C?, comment 16 Vdc, 3.9 mF
WCAP-ATG8 Aluminum Electrolytic Capacitors, 16x25mm, 16 Vdc, 3.9 mF; Part Number: 860010380024; Rated Voltage: 16 Vdc; Value: 3.9 mF; ComponentLink1Description: Manufacturer; ComponentLink1URL: http://www.we-online.de; ComponentLink2Description: Datasheet; ComponentLink2URL: http://katalog.we-online.de/pbs/datasheet/860010380024.pdf; Published Date: Sep. 2017; Publisher: Wurth Elektronik; Size: 16x25mm; Life Cycle: 2000h; Operating Temperature: -40 °C up to +85 °C
footprint WCAP-ATG8_16x25x7.5
pins: 1 P, 2 N

## 860010380025
designator C?, comment 16 Vdc, 4.7 mF
WCAP-ATG8 Aluminum Electrolytic Capacitors, 16x25mm, 16 Vdc, 4.7 mF; Part Number: 860010380025; Rated Voltage: 16 Vdc; Value: 4.7 mF; ComponentLink1Description: Manufacturer; ComponentLink1URL: http://www.we-online.de; ComponentLink2Description: Datasheet; ComponentLink2URL: http://katalog.we-online.de/pbs/datasheet/860010380025.pdf; Published Date: Sep. 2017; Publisher: Wurth Elektronik; Size: 16x25mm; Life Cycle: 2000h; Operating Temperature: -40 °C up to +85 °C
footprint WCAP-ATG8_16x25x7.5
pins: 1 P, 2 N

## 860010380026
designator C?, comment 16 Vdc, 5.6 mF
WCAP-ATG8 Aluminum Electrolytic Capacitors, 16x31.5mm, 16 Vdc, 5.6 mF; Part Number: 860010380026; Rated Voltage: 16 Vdc; Value: 5.6 mF; ComponentLink1Description: Manufacturer; ComponentLink1URL: http://www.we-online.de; ComponentLink2Description: Datasheet; ComponentLink2URL: http://katalog.we-online.de/pbs/datasheet/860010380026.pdf; Published Date: Sep. 2017; Publisher: Wurth Elektronik; Size: 16x31.5mm; Life Cycle: 2000h; Operating Temperature: -40 °C up to +85 °C
footprint WCAP-ATG8_16x31.5x7.5
pins: 1 P, 2 N

## 860010380027
designator C?, comment 16 Vdc, 6.8 mF
WCAP-ATG8 Aluminum Electrolytic Capacitors, 16x31.5mm, 16 Vdc, 6.8 mF; Part Number: 860010380027; Rated Voltage: 16 Vdc; Value: 6.8 mF; ComponentLink1Description: Manufacturer; ComponentLink1URL: http://www.we-online.de; ComponentLink2Description: Datasheet; ComponentLink2URL: http://katalog.we-online.de/pbs/datasheet/860010380027.pdf; Published Date: Sep. 2017; Publisher: Wurth Elektronik; Size: 16x31.5mm; Life Cycle: 2000h; Operating Temperature: -40 °C up to +85 °C
footprint WCAP-ATG8_16x31.5x7.5
pins: 1 P, 2 N

## 860010380028
designator C?, comment 16 Vdc, 8.2 mF
WCAP-ATG8 Aluminum Electrolytic Capacitors, 16x35.5mm, 16 Vdc, 8.2 mF; Part Number: 860010380028; Rated Voltage: 16 Vdc; Value: 8.2 mF; ComponentLink1Description: Manufacturer; ComponentLink1URL: http://www.we-online.de; ComponentLink2Description: Datasheet; ComponentLink2URL: http://katalog.we-online.de/pbs/datasheet/860010380028.pdf; Published Date: Sep. 2017; Publisher: Wurth Elektronik; Size: 16x35.5mm; Life Cycle: 2000h; Operating Temperature: -40 °C up to +85 °C
footprint WCAP-ATG8_16x35.5x7.5
pins: 1 P, 2 N

## 860010381029
designator C?, comment 16 Vdc, 10 mF
WCAP-ATG8 Aluminum Electrolytic Capacitors, 18x35.5mm, 16 Vdc, 10 mF; Part Number: 860010381029; Rated Voltage: 16 Vdc; Value: 10 mF; ComponentLink1Description: Manufacturer; ComponentLink1URL: http://www.we-online.de; ComponentLink2Description: Datasheet; ComponentLink2URL: http://katalog.we-online.de/pbs/datasheet/860010381029.pdf; Published Date: Sep. 2017; Publisher: Wurth Elektronik; Size: 18x35.5mm; Life Cycle: 2000h; Operating Temperature: -40 °C up to +85 °C
footprint WCAP-ATG8_18x35.5x7.5
pins: 1 P, 2 N

## 860010381030
designator C?, comment 16 Vdc, 12 mF
WCAP-ATG8 Aluminum Electrolytic Capacitors, 18x35.5mm, 16 Vdc, 12 mF; Part Number: 860010381030; Rated Voltage: 16 Vdc; Value: 12 mF; ComponentLink1Description: Manufacturer; ComponentLink1URL: http://www.we-online.de; ComponentLink2Description: Datasheet; ComponentLink2URL: http://katalog.we-online.de/pbs/datasheet/860010381030.pdf; Published Date: Sep. 2017; Publisher: Wurth Elektronik; Size: 18x35.5mm; Life Cycle: 2000h; Operating Temperature: -40 °C up to +85 °C
footprint WCAP-ATG8_18x35.5x7.5
pins: 1 P, 2 N

## 860010383031
designator C?, comment 16 Vdc, 15 mF
WCAP-ATG8 Aluminum Electrolytic Capacitors, 22x41mm, 16 Vdc, 15 mF; Part Number: 860010383031; Rated Voltage: 16 Vdc; Value: 15 mF; ComponentLink1Description: Manufacturer; ComponentLink1URL: http://www.we-online.de; ComponentLink2Description: Datasheet; ComponentLink2URL: http://katalog.we-online.de/pbs/datasheet/860010383031.pdf; Published Date: Sep. 2017; Publisher: Wurth Elektronik; Size: 22x41mm; Life Cycle: 2000h; Operating Temperature: -40 °C up to +85 °C
footprint WCAP-ATG8_22x41x10
pins: 1 P, 2 N

## 860010472001
designator C?, comment 25 Vdc, 4.7 uF
WCAP-ATG8 Aluminum Electrolytic Capacitors, 5x11mm, 25 Vdc, 4.7 uF; Part Number: 860010472001; Rated Voltage: 25 Vdc; Value: 4.7 uF; ComponentLink1Description: Manufacturer; ComponentLink1URL: http://www.we-online.de; ComponentLink2Description: Datasheet; ComponentLink2URL: http://katalog.we-online.de/pbs/datasheet/860010472001.pdf; Published Date: Sep. 2017; Publisher: Wurth Elektronik; Size: 5x11mm; Life Cycle: 2000h; Operating Temperature: -40 °C up to +85 °C
footprint WCAP-ATG8_5x11x2
pins: 1 P, 2 N

## 860010472002
designator C?, comment 25 Vdc, 10 uF
WCAP-ATG8 Aluminum Electrolytic Capacitors, 5x11mm, 25 Vdc, 10 uF; Part Number: 860010472002; Rated Voltage: 25 Vdc; Value: 10 uF; ComponentLink1Description: Manufacturer; ComponentLink1URL: http://www.we-online.de; ComponentLink2Description: Datasheet; ComponentLink2URL: http://katalog.we-online.de/pbs/datasheet/860010472002.pdf; Published Date: Sep. 2017; Publisher: Wurth Elektronik; Size: 5x11mm; Life Cycle: 2000h; Operating Temperature: -40 °C up to +85 °C
footprint WCAP-ATG8_5x11x2
pins: 1 P, 2 N

## 860010472003
designator C?, comment 25 Vdc, 22 uF
WCAP-ATG8 Aluminum Electrolytic Capacitors, 5x11mm, 25 Vdc, 22 uF; Part Number: 860010472003; Rated Voltage: 25 Vdc; Value: 22 uF; ComponentLink1Description: Manufacturer; ComponentLink1URL: http://www.we-online.de; ComponentLink2Description: Datasheet; ComponentLink2URL: http://katalog.we-online.de/pbs/datasheet/860010472003.pdf; Published Date: Sep. 2017; Publisher: Wurth Elektronik; Size: 5x11mm; Life Cycle: 2000h; Operating Temperature: -40 °C up to +85 °C
footprint WCAP-ATG8_5x11x2
pins: 1 P, 2 N

## 860010472004
designator C?, comment 25 Vdc, 33 uF
WCAP-ATG8 Aluminum Electrolytic Capacitors, 5x11mm, 25 Vdc, 33 uF; Part Number: 860010472004; Rated Voltage: 25 Vdc; Value: 33 uF; ComponentLink1Description: Manufacturer; ComponentLink1URL: http://www.we-online.de; ComponentLink2Description: Datasheet; ComponentLink2URL: http://katalog.we-online.de/pbs/datasheet/860010472004.pdf; Published Date: Sep. 2017; Publisher: Wurth Elektronik; Size: 5x11mm; Life Cycle: 2000h; Operating Temperature: -40 °C up to +85 °C
footprint WCAP-ATG8_5x11x2
pins: 1 P, 2 N

## 860010472005
designator C?, comment 25 Vdc, 47 uF
WCAP-ATG8 Aluminum Electrolytic Capacitors, 5x11mm, 25 Vdc, 47 uF; Part Number: 860010472005; Rated Voltage: 25 Vdc; Value: 47 uF; ComponentLink1Description: Manufacturer; ComponentLink1URL: http://www.we-online.de; ComponentLink2Description: Datasheet; ComponentLink2URL: http://katalog.we-online.de/pbs/datasheet/860010472005.pdf; Published Date: Sep. 2017; Publisher: Wurth Elektronik; Size: 5x11mm; Life Cycle: 2000h; Operating Temperature: -40 °C up to +85 °C
footprint WCAP-ATG8_5x11x2
pins: 1 P, 2 N

## 860010473006
designator C?, comment 25 Vdc, 68 uF
WCAP-ATG8 Aluminum Electrolytic Capacitors, 6.3x11mm, 25 Vdc, 68 uF; Part Number: 860010473006; Rated Voltage: 25 Vdc; Value: 68 uF; ComponentLink1Description: Manufacturer; ComponentLink1URL: http://www.we-online.de; ComponentLink2Description: Datasheet; ComponentLink2URL: http://katalog.we-online.de/pbs/datasheet/860010473006.pdf; Published Date: Sep. 2017; Publisher: Wurth Elektronik; Size: 6.3x11mm; Life Cycle: 2000h; Operating Temperature: -40 °C up to +85 °C
footprint WCAP-ATG8_6.3x11x2.5
pins: 1 P, 2 N

## 860010473007
designator C?, comment 25 Vdc, 100 uF
WCAP-ATG8 Aluminum Electrolytic Capacitors, 6.3x11mm, 25 Vdc, 100 uF; Part Number: 860010473007; Rated Voltage: 25 Vdc; Value: 100 uF; ComponentLink1Description: Manufacturer; ComponentLink1URL: http://www.we-online.de; ComponentLink2Description: Datasheet; ComponentLink2URL: http://katalog.we-online.de/pbs/datasheet/860010473007.pdf; Published Date: Sep. 2017; Publisher: Wurth Elektronik; Size: 6.3x11mm; Life Cycle: 2000h; Operating Temperature: -40 °C up to +85 °C
footprint WCAP-ATG8_6.3x11x2.5
pins: 1 P, 2 N

## 860010473008
designator C?, comment 25 Vdc, 120 uF
WCAP-ATG8 Aluminum Electrolytic Capacitors, 6.3x11mm, 25 Vdc, 120 uF; Part Number: 860010473008; Rated Voltage: 25 Vdc; Value: 120 uF; ComponentLink1Description: Manufacturer; ComponentLink1URL: http://www.we-online.de; ComponentLink2Description: Datasheet; ComponentLink2URL: http://katalog.we-online.de/pbs/datasheet/860010473008.pdf; Published Date: Sep. 2017; Publisher: Wurth Elektronik; Size: 6.3x11mm; Life Cycle: 2000h; Operating Temperature: -40 °C up to +85 °C
footprint WCAP-ATG8_6.3x11x2.5
pins: 1 P, 2 N

## 860010473009
designator C?, comment 25 Vdc, 150 uF
WCAP-ATG8 Aluminum Electrolytic Capacitors, 6.3x11mm, 25 Vdc, 150 uF; Part Number: 860010473009; Rated Voltage: 25 Vdc; Value: 150 uF; ComponentLink1Description: Manufacturer; ComponentLink1URL: http://www.we-online.de; ComponentLink2Description: Datasheet; ComponentLink2URL: http://katalog.we-online.de/pbs/datasheet/860010473009.pdf; Published Date: Sep. 2017; Publisher: Wurth Elektronik; Size: 6.3x11mm; Life Cycle: 2000h; Operating Temperature: -40 °C up to +85 °C
footprint WCAP-ATG8_6.3x11x2.5
pins: 1 P, 2 N

## 860010473010
designator C?, comment 25 Vdc, 180 uF
WCAP-ATG8 Aluminum Electrolytic Capacitors, 6.3x11mm, 25 Vdc, 180 uF; Part Number: 860010473010; Rated Voltage: 25 Vdc; Value: 180 uF; ComponentLink1Description: Manufacturer; ComponentLink1URL: http://www.we-online.de; ComponentLink2Description: Datasheet; ComponentLink2URL: http://katalog.we-online.de/pbs/datasheet/860010473010.pdf; Published Date: Sep. 2017; Publisher: Wurth Elektronik; Size: 6.3x11mm; Life Cycle: 2000h; Operating Temperature: -40 °C up to +85 °C
footprint WCAP-ATG8_6.3x11x2.5
pins: 1 P, 2 N

## 860010473011
designator C?, comment 25 Vdc, 220 uF
WCAP-ATG8 Aluminum Electrolytic Capacitors, 6.3x11mm, 25 Vdc, 220 uF; Part Number: 860010473011; Rated Voltage: 25 Vdc; Value: 220 uF; ComponentLink1Description: Manufacturer; ComponentLink1URL: http://www.we-online.de; ComponentLink2Description: Datasheet; ComponentLink2URL: http://katalog.we-online.de/pbs/datasheet/860010473011.pdf; Published Date: Sep. 2017; Publisher: Wurth Elektronik; Size: 6.3x11mm; Life Cycle: 2000h; Operating Temperature: -40 °C up to +85 °C
footprint WCAP-ATG8_6.3x11x2.5
pins: 1 P, 2 N

## 860010474012
designator C?, comment 25 Vdc, 330 uF
WCAP-ATG8 Aluminum Electrolytic Capacitors, 8x11.5mm, 25 Vdc, 330 uF; Part Number: 860010474012; Rated Voltage: 25 Vdc; Value: 330 uF; ComponentLink1Description: Manufacturer; ComponentLink1URL: http://www.we-online.de; ComponentLink2Description: Datasheet; ComponentLink2URL: http://katalog.we-online.de/pbs/datasheet/860010474012.pdf; Published Date: Sep. 2017; Publisher: Wurth Elektronik; Size: 8x11.5mm; Life Cycle: 2000h; Operating Temperature: -40 °C up to +85 °C
footprint WCAP-ATG8_8x11.5x3.5
pins: 1 P, 2 N

## 860010474013
designator C?, comment 25 Vdc, 470 uF
WCAP-ATG8 Aluminum Electrolytic Capacitors, 8x11.5mm, 25 Vdc, 470 uF; Part Number: 860010474013; Rated Voltage: 25 Vdc; Value: 470 uF; ComponentLink1Description: Manufacturer; ComponentLink1URL: http://www.we-online.de; ComponentLink2Description: Datasheet; ComponentLink2URL: http://katalog.we-online.de/pbs/datasheet/860010474013.pdf; Published Date: Sep. 2017; Publisher: Wurth Elektronik; Size: 8x11.5mm; Life Cycle: 2000h; Operating Temperature: -40 °C up to +85 °C
footprint WCAP-ATG8_8x11.5x3.5
pins: 1 P, 2 N

## 860010475014
designator C?, comment 25 Vdc, 560 uF
WCAP-ATG8 Aluminum Electrolytic Capacitors, 10x16mm, 25 Vdc, 560 uF; Part Number: 860010475014; Rated Voltage: 25 Vdc; Value: 560 uF; ComponentLink1Description: Manufacturer; ComponentLink1URL: http://www.we-online.de; ComponentLink2Description: Datasheet; ComponentLink2URL: http://katalog.we-online.de/pbs/datasheet/860010475014.pdf; Published Date: Sep. 2017; Publisher: Wurth Elektronik; Size: 10x16mm; Life Cycle: 2000h; Operating Temperature: -40 °C up to +85 °C
footprint WCAP-ATG8_10x16x5
pins: 1 P, 2 N

## 860010475015
designator C?, comment 25 Vdc, 680 uF
WCAP-ATG8 Aluminum Electrolytic Capacitors, 10x16mm, 25 Vdc, 680 uF; Part Number: 860010475015; Rated Voltage: 25 Vdc; Value: 680 uF; ComponentLink1Description: Manufacturer; ComponentLink1URL: http://www.we-online.de; ComponentLink2Description: Datasheet; ComponentLink2URL: http://katalog.we-online.de/pbs/datasheet/860010475015.pdf; Published Date: Sep. 2017; Publisher: Wurth Elektronik; Size: 10x16mm; Life Cycle: 2000h; Operating Temperature: -40 °C up to +85 °C
footprint WCAP-ATG8_10x16x5
pins: 1 P, 2 N

## 860010475016
designator C?, comment 25 Vdc, 820 uF
WCAP-ATG8 Aluminum Electrolytic Capacitors, 10x20mm, 25 Vdc, 820 uF; Part Number: 860010475016; Rated Voltage: 25 Vdc; Value: 820 uF; ComponentLink1Description: Manufacturer; ComponentLink1URL: http://www.we-online.de; ComponentLink2Description: Datasheet; ComponentLink2URL: http://katalog.we-online.de/pbs/datasheet/860010475016.pdf; Published Date: Sep. 2017; Publisher: Wurth Elektronik; Size: 10x20mm; Life Cycle: 2000h; Operating Temperature: -40 °C up to +85 °C
footprint WCAP-ATG8_10x20x5
pins: 1 P, 2 N

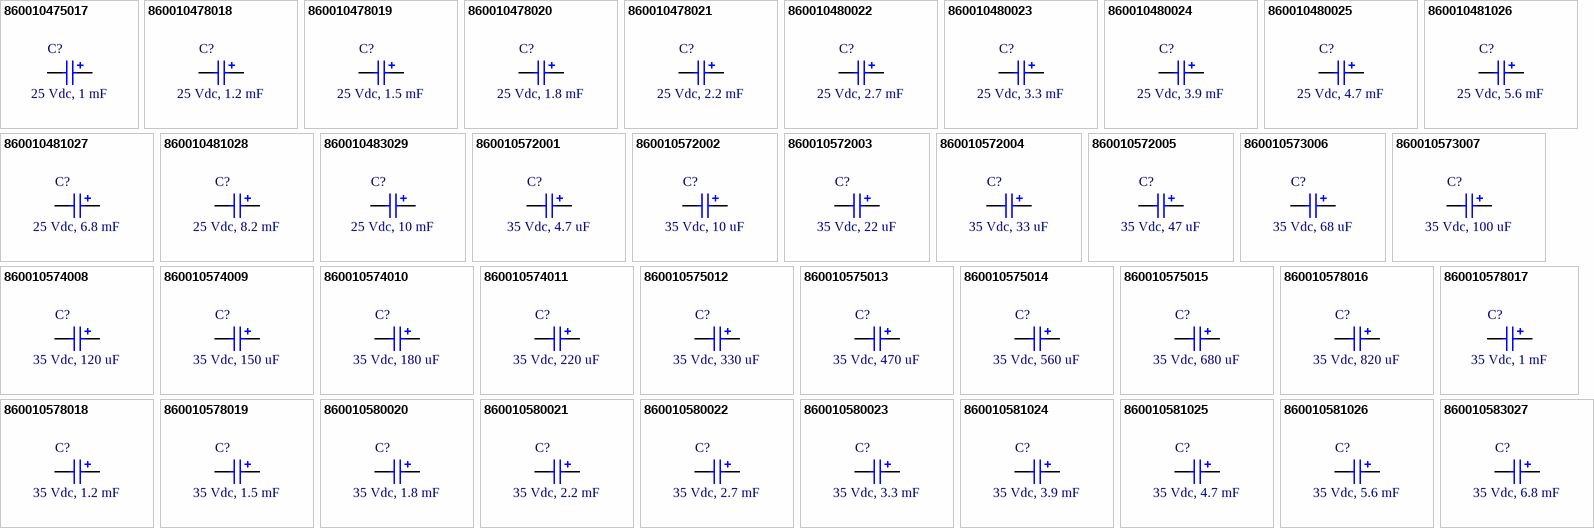
[diagram p2: symbols 860010475017 to 860010583027]

## 860010475017
designator C?, comment 25 Vdc, 1 mF
WCAP-ATG8 Aluminum Electrolytic Capacitors, 10x20mm, 25 Vdc, 1 mF; Part Number: 860010475017; Rated Voltage: 25 Vdc; Value: 1 mF; ComponentLink1Description: Manufacturer; ComponentLink1URL: http://www.we-online.de; ComponentLink2Description: Datasheet; ComponentLink2URL: http://katalog.we-online.de/pbs/datasheet/860010475017.pdf; Published Date: Sep. 2017; Publisher: Wurth Elektronik; Size: 10x20mm; Life Cycle: 2000h; Operating Temperature: -40 °C up to +85 °C
footprint WCAP-ATG8_10x20x5
pins: 1 P, 2 N

## 860010478018
designator C?, comment 25 Vdc, 1.2 mF
WCAP-ATG8 Aluminum Electrolytic Capacitors, 13x20mm, 25 Vdc, 1.2 mF; Part Number: 860010478018; Rated Voltage: 25 Vdc; Value: 1.2 mF; ComponentLink1Description: Manufacturer; ComponentLink1URL: http://www.we-online.de; ComponentLink2Description: Datasheet; ComponentLink2URL: http://katalog.we-online.de/pbs/datasheet/860010478018.pdf; Published Date: Sep. 2017; Publisher: Wurth Elektronik; Size: 13x20mm; Life Cycle: 2000h; Operating Temperature: -40 °C up to +85 °C
footprint WCAP-ATG8_13x20x5
pins: 1 P, 2 N

## 860010478019
designator C?, comment 25 Vdc, 1.5 mF
WCAP-ATG8 Aluminum Electrolytic Capacitors, 13x20mm, 25 Vdc, 1.5 mF; Part Number: 860010478019; Rated Voltage: 25 Vdc; Value: 1.5 mF; ComponentLink1Description: Manufacturer; ComponentLink1URL: http://www.we-online.de; ComponentLink2Description: Datasheet; ComponentLink2URL: http://katalog.we-online.de/pbs/datasheet/860010478019.pdf; Published Date: Sep. 2017; Publisher: Wurth Elektronik; Size: 13x20mm; Life Cycle: 2000h; Operating Temperature: -40 °C up to +85 °C
footprint WCAP-ATG8_13x20x5
pins: 1 P, 2 N

## 860010478020
designator C?, comment 25 Vdc, 1.8 mF
WCAP-ATG8 Aluminum Electrolytic Capacitors, 13x20mm, 25 Vdc, 1.8 mF; Part Number: 860010478020; Rated Voltage: 25 Vdc; Value: 1.8 mF; ComponentLink1Description: Manufacturer; ComponentLink1URL: http://www.we-online.de; ComponentLink2Description: Datasheet; ComponentLink2URL: http://katalog.we-online.de/pbs/datasheet/860010478020.pdf; Published Date: Sep. 2017; Publisher: Wurth Elektronik; Size: 13x20mm; Life Cycle: 2000h; Operating Temperature: -40 °C up to +85 °C
footprint WCAP-ATG8_13x20x5
pins: 1 P, 2 N

## 860010478021
designator C?, comment 25 Vdc, 2.2 mF
WCAP-ATG8 Aluminum Electrolytic Capacitors, 13x25mm, 25 Vdc, 2.2 mF; Part Number: 860010478021; Rated Voltage: 25 Vdc; Value: 2.2 mF; ComponentLink1Description: Manufacturer; ComponentLink1URL: http://www.we-online.de; ComponentLink2Description: Datasheet; ComponentLink2URL: http://katalog.we-online.de/pbs/datasheet/860010478021.pdf; Published Date: Sep. 2017; Publisher: Wurth Elektronik; Size: 13x25mm; Life Cycle: 2000h; Operating Temperature: -40 °C up to +85 °C
footprint WCAP-ATG8_13x25x5
pins: 1 P, 2 N

## 860010480022
designator C?, comment 25 Vdc, 2.7 mF
WCAP-ATG8 Aluminum Electrolytic Capacitors, 16x25mm, 25 Vdc, 2.7 mF; Part Number: 860010480022; Rated Voltage: 25 Vdc; Value: 2.7 mF; ComponentLink1Description: Manufacturer; ComponentLink1URL: http://www.we-online.de; ComponentLink2Description: Datasheet; ComponentLink2URL: http://katalog.we-online.de/pbs/datasheet/860010480022.pdf; Published Date: Sep. 2017; Publisher: Wurth Elektronik; Size: 16x25mm; Life Cycle: 2000h; Operating Temperature: -40 °C up to +85 °C
footprint WCAP-ATG8_16x25x7.5
pins: 1 P, 2 N

## 860010480023
designator C?, comment 25 Vdc, 3.3 mF
WCAP-ATG8 Aluminum Electrolytic Capacitors, 16x25mm, 25 Vdc, 3.3 mF; Part Number: 860010480023; Rated Voltage: 25 Vdc; Value: 3.3 mF; ComponentLink1Description: Manufacturer; ComponentLink1URL: http://www.we-online.de; ComponentLink2Description: Datasheet; ComponentLink2URL: http://katalog.we-online.de/pbs/datasheet/860010480023.pdf; Published Date: Sep. 2017; Publisher: Wurth Elektronik; Size: 16x25mm; Life Cycle: 2000h; Operating Temperature: -40 °C up to +85 °C
footprint WCAP-ATG8_16x25x7.5
pins: 1 P, 2 N